# EAGLE library part AD8222 (library moth)
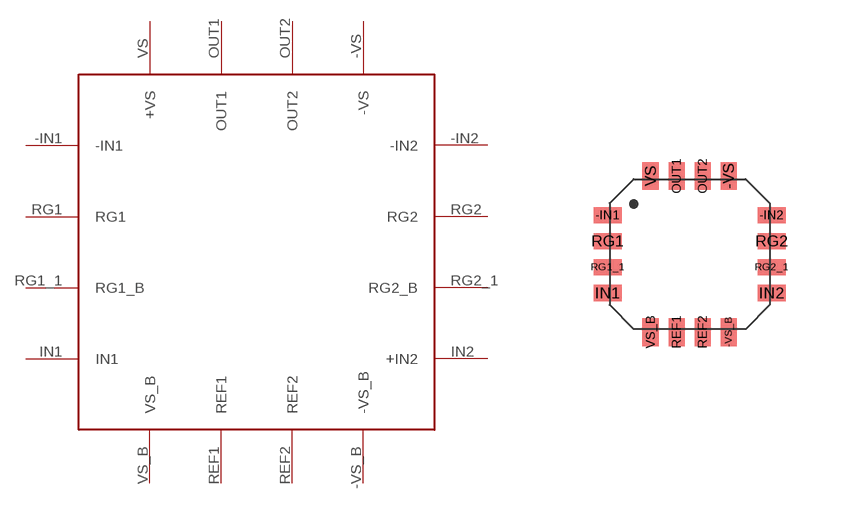
[diagram p2: symbol with the pads of QFN-16; footprint QFN-16]

Designator prefix -

## AD8222  [QFN-16]
-IN1  -IN1
-IN2  -IN2
-VS  -VS
-VS_B  -VS_B
IN1  IN1
IN2  +IN2
OUT1  OUT1
OUT2  OUT2
REF1  REF1
REF2  REF2
RG1  RG1
RG1_1  RG1_B
RG2  RG2
RG2_1  RG2_B
VS  +VS
VS_B  VS_B

## Footprint QFN-16 (pad centres in mm)
smd 0.7 x 0.4: -IN1 -2.05,0.975; -IN2 2.05,0.975; IN1 -2.05,-0.975; IN2 2.05,-0.975; RG1 -2.05,0.325; RG1_1 -2.05,-0.325; RG2 2.05,0.325; RG2_1 2.05,-0.325
smd 0.4 x 0.7: -VS 0.975,1.95; -VS_B 0.975,-1.95; OUT1 -0.325,1.95; OUT2 0.325,1.95; REF1 -0.325,-1.95; REF2 0.325,-1.95; VS -0.975,1.95; VS_B -0.975,-1.95